# EAGLE library part TI-TPS62730 (library FaBo-Supply)
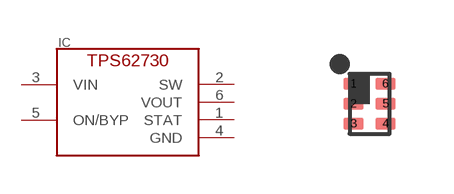
[diagram p0: symbol with the pads of TI-TPS62730; footprint TI-TPS62730]

Designator prefix IC

## TI-TPS62730  [TI-TPS62730]
1  STAT
2  SW
3  VIN
4  GND
5  ON/BYP
6  VOUT

## Footprint TI-TPS62730 (pad centres in mm)
TPS62730 Datasheet
smd 0.5 x 0.3: 1 -0.4,0.5; 2 -0.4,0; 3 -0.4,-0.5; 4 0.4,-0.5; 5 0.4,0; 6 0.4,0.5